# EAGLE library part 53048_12 (library Molex)
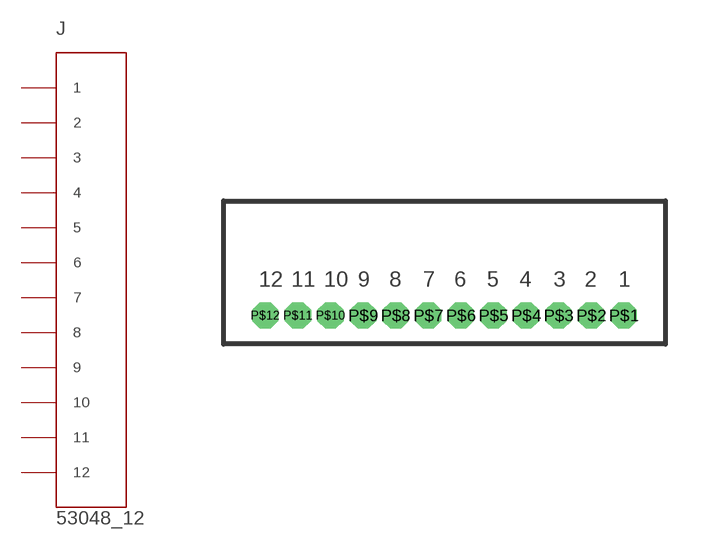
[diagram p5: symbol with the pads of 53048_12; footprint 53048_12]

Designator prefix J

## 53048_12  [53048_12]
P$1  1
P$2  2
P$3  3
P$4  4
P$5  5
P$6  6
P$7  7
P$8  8
P$9  9
P$10  10
P$11  11
P$12  12

## Footprint 53048_12 (pad centres in mm)
drill 0.5 octagon: P$1 0,0; P$2 -1.25,0; P$3 -2.5,0; P$4 -3.75,0; P$5 -5,0; P$6 -6.25,0; P$7 -7.5,0; P$8 -8.75,0; P$9 -10,0; P$10 -11.25,0; P$11 -12.5,0; P$12 -13.75,0